# EAGLE library part SN65DP159RSB (library Public)
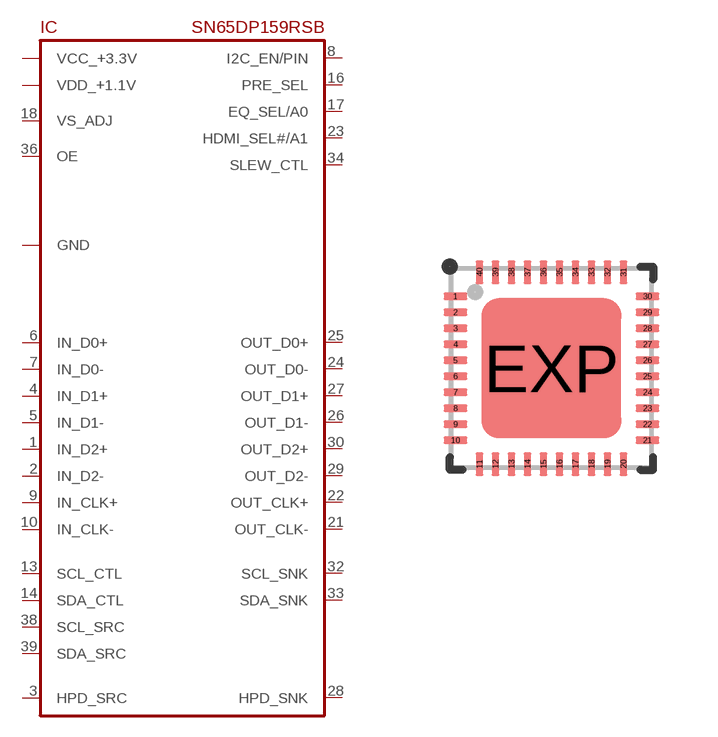
[diagram p140: symbol with the pads of WQFN40-0.4; footprint WQFN40-0.4]

Designator prefix IC

## SN65DP159RSB  [WQFN40-0.4]
1  IN_D2+
2  IN_D2-
3  HPD_SRC
4  IN_D1+
5  IN_D1-
6  IN_D0+
7  IN_D0-
8  I2C_EN/PIN
9  IN_CLK+
10  IN_CLK-
11  VCC_+3.3V
12  VDD_+1.1V
13  SCL_CTL
14  SDA_CTL
15  GND
16  PRE_SEL
17  EQ_SEL/A0
18  VS_ADJ
19  VDD_+1.1V
20  VDD_+1.1V
21  OUT_CLK-
22  OUT_CLK+
23  HDMI_SEL#/A1
24  OUT_D0-
25  OUT_D0+
26  OUT_D1-
27  OUT_D1+
28  HPD_SNK
29  OUT_D2-
30  OUT_D2+
31  VDD_+1.1V
32  SCL_SNK
33  SDA_SNK
34  SLEW_CTL
35  GND
36  OE
37  VCC_+3.3V
38  SCL_SRC
39  SDA_SRC
40  VDD_+1.1V
EXP  GND

## Footprint WQFN40-0.4 (pad centres in mm)
smd 0.6 x 0.2: 1 -2.4,1.8; 2 -2.4,1.4; 3 -2.4,1; 4 -2.4,0.6; 5 -2.4,0.2; 6 -2.4,-0.2; 7 -2.4,-0.6; 8 -2.4,-1; 9 -2.4,-1.4; 10 -2.4,-1.8; 21 2.4,-1.8; 22 2.4,-1.4; 23 2.4,-1; 24 2.4,-0.6; 25 2.4,-0.2; 26 2.4,0.2; 27 2.4,0.6; 28 2.4,1; 29 2.4,1.4; 30 2.4,1.8
smd 0.2 x 0.6: 11 -1.8,-2.4; 12 -1.4,-2.4; 13 -1,-2.4; 14 -0.6,-2.4; 15 -0.2,-2.4; 16 0.2,-2.4; 17 0.6,-2.4; 18 1,-2.4; 19 1.4,-2.4; 20 1.8,-2.4; 31 1.8,2.4; 32 1.4,2.4; 33 1,2.4; 34 0.6,2.4; 35 0.2,2.4; 36 -0.2,2.4; 37 -0.6,2.4; 38 -1,2.4; 39 -1.4,2.4; 40 -1.8,2.4
smd 3.5 x 3.5: EXP 0,0